# Altium footprint library RHDR16W70P0X254_1X16_4104X250X865P.PcbLib: 1 footprints
Each footprint in its own frame and in the unit in brackets; x right, y up, seen from the top. Pads: shape width x height; smd on the part's side, far side on the other; paste and mask are expansions set on the pad; w line width, h text height; cw(c..) or ccw(c..) is an arc to the next point about the centre after c.
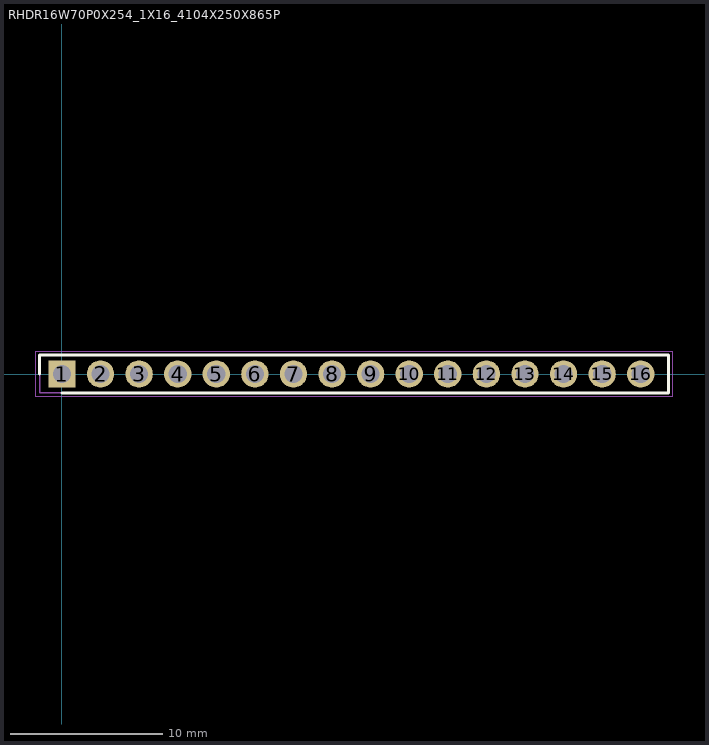
[diagram p0: the footprint, top view; thin cyan lines are the x and y axes]

## RHDR16W70P0X254_1X16_4104X250X865P [mm]
pads (16):
  rect 1.8x1.8 / inner round 1.8 / far side rect 1.8x1.8 hole 1.2: 1(0,0)
  round 1.8 hole 1.2: 2(2.54,0) 3(5.08,0) 4(7.62,0) 5(10.16,0) 6(12.7,0) 7(15.24,0) 8(17.78,0) 9(20.32,0) 10(22.86,0) 11(25.4,0) 12(27.94,0) 13(30.48,0) 14(33.02,0) 15(35.56,0) 16(38.1,0)
Top Overlay:
  lines w0.2: -1.47,0 -1.47,1.25 39.92,1.25 39.92,-1.25 0,-1.25
Mechanical 15:
  lines w0.1: -1.47,-1.25 -1.47,1.25 39.92,1.25 39.92,-1.25 -1.47,-1.25
Mechanical 20:
  lines w0.05: -1.72,-1.5 -1.72,1.5 40.17,1.5 40.17,-1.5 -1.72,-1.5